# EAGLE library part ADS1115IRUGR (library brett)
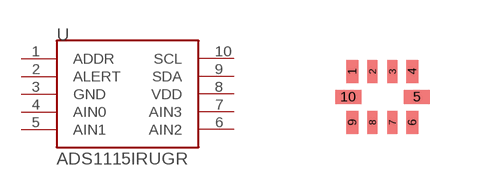
[diagram p6: symbol with the pads of 10-XFQFN; footprint 10-XFQFN]

Designator prefix -

## ADS1115IRUGR  [10-XFQFN]
1  ADDR
2  ALERT
3  GND
4  AIN0
5  AIN1
6  AIN2
7  AIN3
8  VDD
9  SDA
10  SCL

## Footprint 10-XFQFN (pad centres in mm)
smd 0.3 x 0.58: 1 0.5,1.775; 4 2,1.775; 6 2,0.5; 9 0.5,0.5
smd 0.25 x 0.58: 2 1,1.775; 3 1.5,1.775; 7 1.5,0.5; 8 1,0.5
smd 0.65 x 0.35: 5 2.11,1.137; 10 0.39,1.137